# EAGLE library part ESP-07 (library Mine)
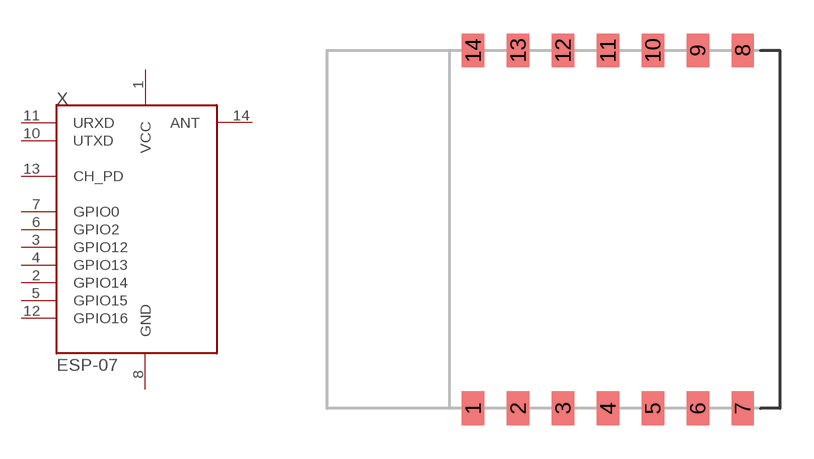
[diagram p78: symbol with the pads of ESP-07; footprint ESP-07]

Designator prefix X

## ESP-07  [ESP-07]
1  VCC  sup
2  GPIO14
3  GPIO12
4  GPIO13
5  GPIO15
6  GPIO2
7  GPIO0
8  GND  sup
10  UTXD  out
11  URXD  in
12  GPIO16
13  CH_PD  in
14  ANT

## Footprint ESP-07 (pad centres in mm)
smd 1 x 1.5: 1 -13.4,0; 2 -11.4,0; 3 -9.4,0; 4 -7.4,0; 5 -5.4,0; 6 -3.4,0; 7 -1.4,0; 8 -1.4,15.95; 9 -3.4,15.95; 10 -5.4,15.95; 11 -7.4,15.95; 12 -9.4,15.95; 13 -11.4,15.95; 14 -13.4,15.95